# Altium footprint library WREL_AD10_Ben.PcbLib: 135 footprints (part 7 of 9)
Each footprint in its own frame and in the unit in brackets; x right, y up, seen from the top. Pads: shape width x height; smd on the part's side, far side on the other; paste and mask are expansions set on the pad; w line width, h text height; cw(c..) or ccw(c..) is an arc to the next point about the centre after c.
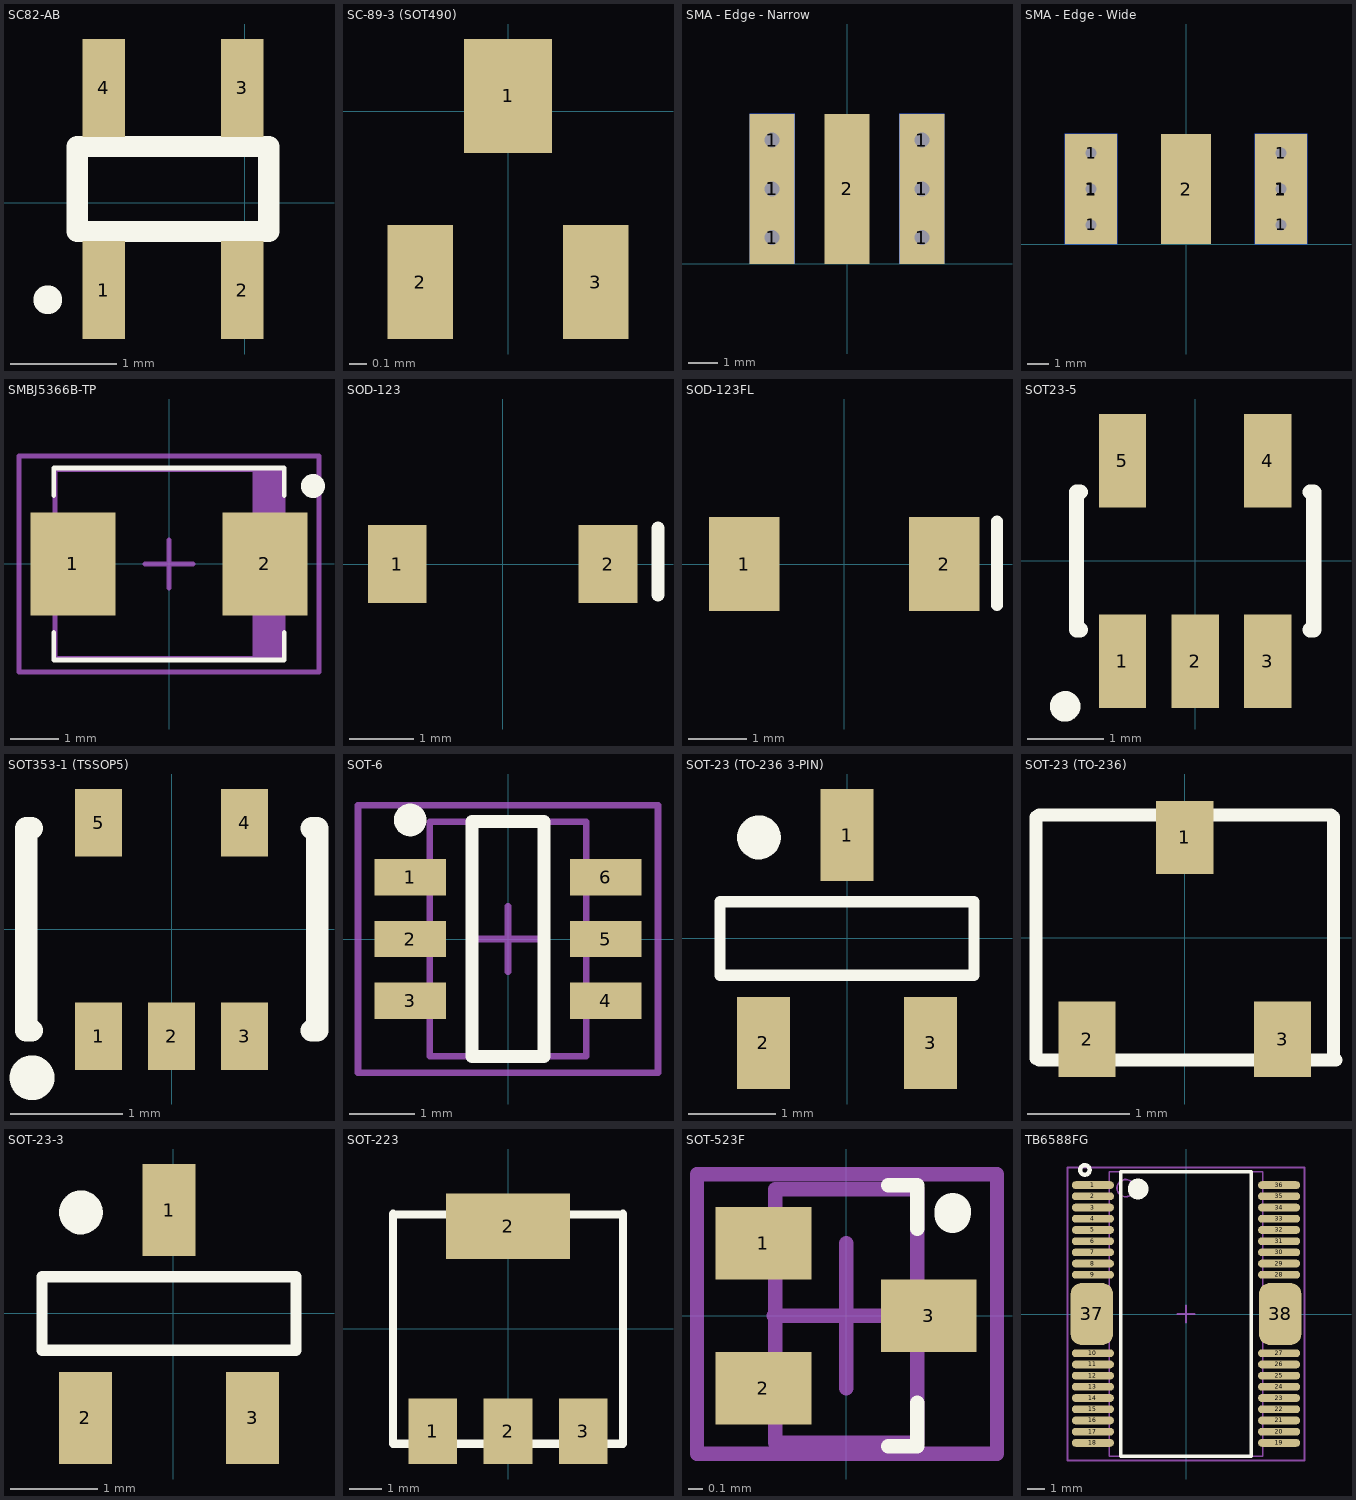
[diagram p6: the footprints below, top view; thin cyan lines are the x and y axes]

## SC82-AB [mm]
pads (4):
  rect 0.4x0.92 smd: 1(-1.323,-0.823) 2(-0.023,-0.823) 3(-0.023,1.077) 4(-1.323,1.077)
Top Overlay:
  circle w0.254: c-1.849,-0.914 r0.008
  lines w0.2: -1.573,-0.273 0.227,-0.273 0.227,0.527 -1.573,0.527 -1.573,-0.273
3D body: height 0.18, standoff 0, extent -0.228,-0.927 0.178,-0.495
3D body: height 0.18, standoff 0, extent -1.524,-0.927 -1.117,-0.495
3D body: height 0.18, standoff 0, extent -0.228,0.749 0.178,1.181
3D body: height 0.18, standoff 0, extent -1.524,0.749 -1.118,1.181
3D body: height 0.95, standoff 0, extent -1.651,-0.495 0.33,0.749

## SC-89-3 (SOT490) [mm]
height 0.8
pads (3):
  rect 0.51x0.66 smd: 1(0,0.089)
  rect 0.38x0.66 smd: 2(-0.508,-0.991) 3(0.508,-0.991)
3D body: height 0.8, standoff 0.1, extent -0.787,-0.826 0.787,-0.064
3D body: height 0.1, standoff 0, extent -0.14,-0.076 0.14,0.305
3D body: height 0.1, standoff 0, extent -0.648,-1.206 -0.368,-0.825
3D body: height 0.1, standoff 0, extent 0.368,-1.206 0.648,-0.825

## SMA - Edge - Narrow [mil] "SMA - Board Edge Connector, Narrow body = 0.25in"
height 5
pads (11):
  round 38 hole 20: 1(-100,35) 1(-100,100) 1(-100,165) 1(100,35) 1(100,100) 1(100,165)
  rect 60x200 smd: 1(-100,100) 1(100,100) 2(0,100)
  rect 60x200 smd far side: 1(-100,100) 1(100,100)
3D body: height 150.2, standoff -99.8, extent -125,-376.97 125,147.83

## SMA - Edge - Wide [mil] "SMA - Board Edge Connector, Wide Body = .375in, no gnd pad"
height 5
pads (11):
  round 38 hole 20: 1(-172.5,35) 1(-172.5,100) 1(-172.5,165) 1(172.5,35) 1(172.5,100) 1(172.5,165)
  rect 95x200 smd: 1(-172.5,100) 1(172.5,100)
  rect 95x200 smd far side: 1(-172.5,100) 1(172.5,100)
  rect 90x200 smd: 2(0,100)

## SMBJ5366B-TP [mm] "DIODE ZENER 39V 5W DO214AA"
height 2.41
pads (2):
  rect 1.778x2.15 smd: 1(-2,0) 2(2,0)
Top Overlay:
  circle w0.25: c3,1.625 r0.125
  lines w0.1: -2.4,-1.425 -2.4,-2 2.4,-2 2.4,-1.425 ; -2.4,1.425 -2.4,2 2.4,2 2.4,1.425
Mechanical 13:
  rectangle: 1.736,-1.97 2.375,1.97
  lines w0.1: -2.375,-1.97 -2.375,1.97 2.375,1.97 2.375,-1.97 -2.375,-1.97
Mechanical 15:
  lines w0.1: -0.5,0 0.5,0 ; 0,-0.5 0,0.5 ; -3.125,-2.25 -3.125,2.25 3.125,2.25 3.125,-2.25 -3.125,-2.25
3D body: height 2.41, standoff 0, extent -2.375,-1.97 2.375,1.97

## SOD-123 [mil] "SOD-123"
height 42.75
pads (2):
  rect 36x48 smd: 1(-64.5,0) 2(64.5,0)
Top Overlay:
  lines w7.87: 95,-19 95,22
3D body: height 2.25, standoff 0, extent 52.5,-12 73.5,12
3D body: height 2.25, standoff 0, extent -73.5,-12 -52.5,12
3D body: height 42.75, standoff 2.25, extent -53,-31.5 53,31.5

## SOD-123FL [mil] "SOD-123FL"
height 42.75
pads (2):
  rect 48x64 smd: 1(-68,0) 2(68,0)
Top Overlay:
  lines w7.87: 104,-28 104,29
3D body: height 2.25, standoff 0, extent 52.51,-12 73.51,12
3D body: height 2.25, standoff 0, extent -73.49,-12 -52.49,12
3D body: height 42.75, standoff 2.25, extent -53,-31.5 53,31.5

## SOT23-5 [mm] "SOT23-5"
height 1
pads (5):
  rect 0.62x1.22 smd: 1(-0.95,-1.31) 2(0,-1.31) 3(0.95,-1.31) 4(0.95,1.31) 5(-0.95,1.31)
Top Overlay:
  circle w0.2: c-1.7,-1.9 r0.1
  lines w0.2: -1.5,-0.9 -1.55,-0.9 -1.55,0.9 -1.5,0.9 ; 1.5,-0.9 1.55,-0.9 1.55,0.9 1.5,0.9
3D body: height 1, standoff 0.1, extent -1.55,-0.9 1.55,0.9
3D body: height 0.1, standoff 0, extent -1.27,0.686 -0.66,1.905
3D body: height 0.1, standoff 0, extent 0.635,0.686 1.245,1.905
3D body: height 0.1, standoff 0, extent -1.27,-1.905 -0.66,-0.686
3D body: height 0.1, standoff 0, extent -0.305,-1.905 0.305,-0.686
3D body: height 0.1, standoff 0, extent 0.635,-1.905 1.245,-0.686

## SOT353-1 (TSSOP5) [mm] "SOT353-1 (TSSOP5)"
height 1.1
pads (5):
  rect 0.42x0.6 smd: 1(-0.65,-0.95) 2(0,-0.95) 3(0.65,-0.95) 4(0.65,0.95) 5(-0.65,0.95)
Top Overlay:
  circle w0.2: c-1.243,-1.321 r0.1
  lines w0.2: -1.246,-0.9 -1.296,-0.9 -1.296,0.9 -1.246,0.9 ; 1.246,-0.9 1.296,-0.9 1.296,0.9 1.246,0.9
3D body: height 1.1, standoff 0, extent -1.054,-0.622 1.003,0.622
3D body: height 0.15, standoff 0, extent -0.775,0.622 -0.546,1.054
3D body: height 0.15, standoff 0, extent 0.546,0.622 0.775,1.054
3D body: height 0.15, standoff 0, extent -0.775,-1.054 -0.546,-0.622
3D body: height 0.15, standoff 0, extent -0.114,-1.054 0.114,-0.622
3D body: height 0.15, standoff 0, extent 0.546,-1.054 0.775,-0.622

## SOT-6 [mm] "RF Switch 200105E Skyworks"
height 1.626
pads (6):
  rect 1.1x0.559 smd: 1(-1.5,0.95) 2(-1.5,0) 3(-1.5,-0.95) 4(1.5,-0.95) 5(1.5,0) 6(1.5,0.95)
Top Overlay:
  circle w0.25: c-1.5,1.825 r0.125
  lines w0.2: -0.55,-1.8 0.55,-1.8 0.55,1.8 -0.55,1.8 -0.55,-1.8
Mechanical 13:
  lines w0.1: -1.2,-1.8 -1.2,1.8 1.2,1.8 1.2,-1.8 -1.2,-1.8
Mechanical 15:
  lines w0.1: -0.5,0 0.5,0 ; 0,-0.5 0,0.5 ; -2.3,-2.05 -2.3,2.05 2.3,2.05 2.3,-2.05 -2.3,-2.05
3D body: height 1.4, standoff 0, extent -1.2,-1.8 1.2,1.8

## SOT-23 (TO-236 3-PIN) [mm] "Voltage Supervisor"
height 1.118
pads (3):
  rect 0.6x1.05 smd: 1(0,1.179) 2(-0.953,-1.192) 3(0.953,-1.192)
Top Overlay:
  circle w0.25: c-1.005,1.152 r0.125
  lines w0.127: -1.45,-0.419 1.45,-0.419 1.45,0.419 -1.45,0.419 -1.45,-0.419
3D body: height 1, standoff 0.06, extent -1.46,-0.648 1.461,0.648
3D body: height 0.06, standoff 0, extent -0.203,0.648 0.203,1.181
3D body: height 0.06, standoff 0, extent -1.168,-1.181 -0.762,-0.648
3D body: height 0.06, standoff 0, extent 0.762,-1.181 1.169,-0.648

## SOT-23 (TO-236) [mil] "MOSFET P-Chan., 12V"
height 44
pads (3):
  rect 22x28 smd: 1(0,38.5)
  rect 22x29 smd: 2(-37.5,-39) 3(37.5,-39)
Top Overlay:
  lines w5: -57.09,-46.26 -57.09,46.26 ; -56,-47 58,-47 ; -56,47 56,47 ; 57.09,-46.26 57.09,46.26
3D body: height 2.17, standoff 0, extent 30,-46.5 46,-25.5
3D body: height 2.17, standoff 0, extent -46,-46.5 -30,-25.5
3D body: height 2.17, standoff 0, extent -8,25.5 8,46.5
3D body: height 39.57, standoff 2.17, extent -57.5,-25.5 57.5,25.5

## SOT-23-3 [mm] "Voltage Supervisor"
pads (3):
  rect 0.6x1.05 smd: 1(-0.051,1.179) 2(-1.003,-1.192) 3(0.902,-1.192)
Top Overlay:
  circle w0.25: c-1.055,1.152 r0.125
  lines w0.127: -1.501,-0.419 -1.501,0.419 1.399,0.419 1.399,-0.419 -1.501,-0.419
3D body: height 0.06, standoff 0, extent 0.711,-1.181 1.118,-0.648
3D body: height 0.06, standoff 0, extent -1.219,-1.181 -0.813,-0.648
3D body: height 0.06, standoff 0, extent -0.254,0.648 0.152,1.181
3D body: height 1, standoff 0.06, extent -1.511,-0.648 1.41,0.648

## SOT-223 [mil] "BCP56 NPN Power Transistor"
height 64
pads (4):
  rect 59x79 smd: 1(-91,-124) 2(0,-124) 3(91,-124)
  rect 150x79 smd: 2(0,124)
Top Overlay:
  lines w10: -139,-139 -139,139 ; -139,138 139,138 ; -137,-139 139,-139 139,139
3D body: height 64.17, standoff 0, extent -132,-73 132,73
3D body: height 50.17, standoff 0, extent -109,-141.5 -79,-72.5
3D body: height 50.17, standoff 0, extent -18.44,-141.5 11.56,-72.5
3D body: height 50.17, standoff 0, extent 72.11,-141.5 102.11,-72.5
3D body: height 50.17, standoff 0, extent -59,73 61,143

## SOT-523F [mm]
height 0.78
pads (3):
  rect 0.66x0.5 smd: 1(-0.57,0.5) 2(-0.57,-0.5) 3(0.57,0)
Top Overlay:
  lines w0.1: 0.29,-0.9 0.49,-0.9 0.49,-0.6 ; 0.29,0.9 0.49,0.9 0.49,0.6
  lines w0.25: 0.734,0.697 ccw(c0.612,0.724) 0.737,0.724
Mechanical 13:
  lines w0.1: -0.49,-0.875 -0.49,0.875 0.49,0.875 0.49,-0.875 -0.49,-0.875
Mechanical 15:
  lines w0.1: -0.5,0 0.5,0 ; 0,-0.5 0,0.5 ; -1.029,-0.953 -1.029,0.978 1.041,0.978 1.041,-0.953 -1.029,-0.953
3D body: height 0.78, standoff 0.04, extent -0.49,-0.875 0.49,0.875

## TB6588FG [mm]
pads (38):
  oval 2.45x0.45 smd: 1(-5.4,7.5) 2(-5.4,6.85) 3(-5.4,6.2) 4(-5.4,5.55) 5(-5.4,4.9) 6(-5.4,4.25) 7(-5.4,3.6) 8(-5.4,2.95) 9(-5.4,2.3) 10(-5.4,-2.25) 11(-5.4,-2.9) 12(-5.4,-3.55) 13(-5.4,-4.2) 14(-5.4,-4.85) 15(-5.4,-5.5) 16(-5.4,-6.15) 17(-5.4,-6.8) 18(-5.4,-7.45) 19(5.4,-7.45) 20(5.4,-6.8) 21(5.4,-6.15) 22(5.4,-5.5) 23(5.4,-4.85) 24(5.4,-4.2) 25(5.4,-3.55) 26(5.4,-2.9) 27(5.4,-2.25) 28(5.4,2.3) 29(5.4,2.95) 30(5.4,3.6) 31(5.4,4.25) 32(5.4,4.9) 33(5.4,5.55) 34(5.4,6.2) 35(5.4,6.85) 36(5.4,7.5)
  rrect50% 2.45x3.6 smd: 37(-5.461,0.025) 38(5.461,0.025)
Top Overlay:
  circle w0.25: c-5.865,8.382 r0.277
  circle w0.6: c-2.775,7.275 r0.3
  lines w0.2: -3.775,-8.225 -3.775,8.275 3.775,8.275 3.775,-8.225 -3.775,-8.225
Mechanical 13:
  circle w0.1: c-3.5,7.325 r0.5
  lines w0.1: -4.45,-8.225 -4.45,8.275 4.45,8.275 4.45,-8.225 -4.45,-8.225
Mechanical 15:
  lines w0.1: -0.5,0.025 0.5,0.025 ; 0,-0.475 0,0.525 ; -6.875,-8.475 -6.875,8.525 6.875,8.525 6.875,-8.475 -6.875,-8.475
3D body: height 2.75, standoff 0.2, extent -4.45,-8.225 4.45,8.275